# Altium schematic symbol library lm_334.SchLib: 1 symbol
Pins are listed as number, name and electrical type; pins without a type are passive.

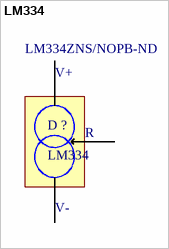
[diagram p0: symbol LM334]

## LM334
designator D ?  Supplier Part Number 1: LM334ZNS/NOPB-ND
Supplier 1: Digi-Key
footprint TO-226-AE (TO, Flat Index; 3 In-Line, Axial Leads; Body Dia. 4.8mm; Leads 0.55 x 0.51 mm (max))
pins: 1 V +, 2 R, 3 V -
text: V+; V-